# Altium footprint library WR-TBL_Rising Cage Clamp_7.62mm.PcbLib: 34 footprints (part 3 of 3)
Each footprint in its own frame and in the unit in brackets; x right, y up, seen from the top. Pads: shape width x height; smd on the part's side, far side on the other; paste and mask are expansions set on the pad; w line width, h text height; cw(c..) or ccw(c..) is an arc to the next point about the centre after c.
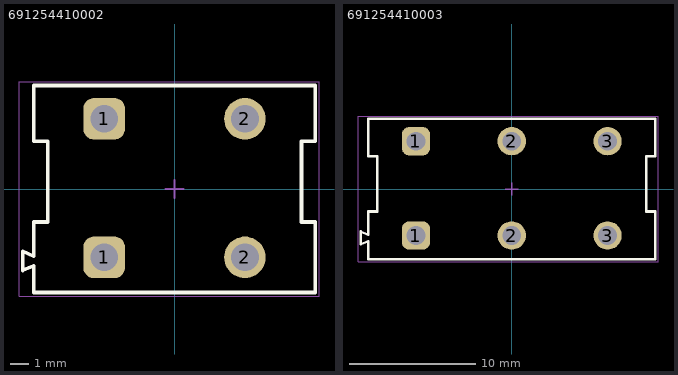
[diagram p2: the footprints below, top view; thin cyan lines are the x and y axes]

## 691254410002 [mm] "Serie 2544 - 7.62 mm _ 2 pins"
height 18
pads (4):
  rrect50% 2.25x2.25 hole 1.5: 1(-3.81,-3.7) 1(-3.81,3.8)
  round 2.25 hole 1.5: 2(3.81,-3.7) 2(3.81,3.8)
Top Overlay:
  lines w0.2: -7.62,5.6 7.62,5.6 7.62,2.59 6.87,2.59 6.87,-1.79 7.62,-1.79 7.62,-5.6 -7.62,-5.6 -7.62,-4.15 -8.22,-4.41 -8.22,-3.38 -7.62,-3.64 -7.62,-1.79 -6.87,-1.79 -6.87,2.59 -7.62,2.59 -7.62,5.6
Top Assembly:
  lines w0.1: -7.62,5.6 7.62,5.6 7.62,2.59 6.87,2.59 6.87,-1.79 7.62,-1.79 7.62,-5.6 -7.62,-5.6 -7.62,-4.15 -8.22,-4.41 -8.22,-3.38 -7.62,-3.64 -7.62,-1.79 -6.87,-1.79 -6.87,2.59 -7.62,2.59 -7.62,5.6
Top Designator:
  text ".Designator" at -3.647,-0.357 h1
Top 3D Body:
  lines w0.1: -7.62,5.6 7.62,5.6 7.62,2.59 6.87,2.59 6.87,-1.79 7.62,-1.79 7.62,-5.6 -7.62,-5.6 -7.62,-4.15 -8.22,-4.41 -8.22,-3.38 -7.62,-3.64 -7.62,-1.79 -6.87,-1.79 -6.87,2.59 -7.62,2.59 -7.62,5.6
Top Courtyard:
  lines w0.05: -8.42,-5.8 -8.42,5.8 7.82,5.8 7.82,-5.8 -8.42,-5.8
Top Component Center:
  lines w0.1: -0.5,0 0.5,0 ; 0,-0.5 0,0.5
3D body "691254410002.stp": height 18.05, standoff -3.45, extent -8.22,-5.6 7.62,5.6

## 691254410003 [mm] "Serie 2544 - 7.62 mm _ 3 pins"
height 18
pads (6):
  rrect50% 2.25x2.25 hole 1.5: 1(-7.62,-3.7) 1(-7.62,3.8)
  round 2.25 hole 1.5: 2(0,-3.7) 2(0,3.8) 3(7.62,-3.7) 3(7.62,3.8)
Top Overlay:
  lines w0.2: -11.43,5.6 11.43,5.6 11.43,2.59 10.68,2.59 10.68,-1.79 11.43,-1.79 11.43,-5.6 -11.43,-5.6 -11.43,-4.15 -12.03,-4.41 -12.03,-3.38 -11.43,-3.64 -11.43,-1.79 -10.68,-1.79 -10.68,2.59 -11.43,2.59 -11.43,5.6
Top Assembly:
  lines w0.1: -11.43,5.6 11.43,5.6 11.43,2.59 10.68,2.59 10.68,-1.79 11.43,-1.79 11.43,-5.6 -11.43,-5.6 -11.43,-4.15 -12.03,-4.41 -12.03,-3.38 -11.43,-3.64 -11.43,-1.79 -10.68,-1.79 -10.68,2.59 -11.43,2.59 -11.43,5.6
Top Designator:
  text ".Designator" at -3.647,-0.357 h1
Top 3D Body:
  lines w0.1: -11.43,5.6 11.43,5.6 11.43,2.59 10.68,2.59 10.68,-1.79 11.43,-1.79 11.43,-5.6 -11.43,-5.6 -11.43,-4.15 -12.03,-4.41 -12.03,-3.38 -11.43,-3.64 -11.43,-1.79 -10.68,-1.79 -10.68,2.59 -11.43,2.59 -11.43,5.6
Top Courtyard:
  lines w0.05: -12.23,-5.8 11.63,-5.8 11.63,5.8 -12.23,5.8 -12.23,-5.8
Top Component Center:
  lines w0.1: -0.5,0 0.5,0 ; 0,-0.5 0,0.5
3D body "691254410003.stp": height 18.05, standoff -3.45, extent -12.03,-5.6 11.43,5.6